# Altium integrated library Linear Technology PMIC-Switching Reg LTC1174-LTC3901.IntLib: 2647 symbols (part 94 of 310)
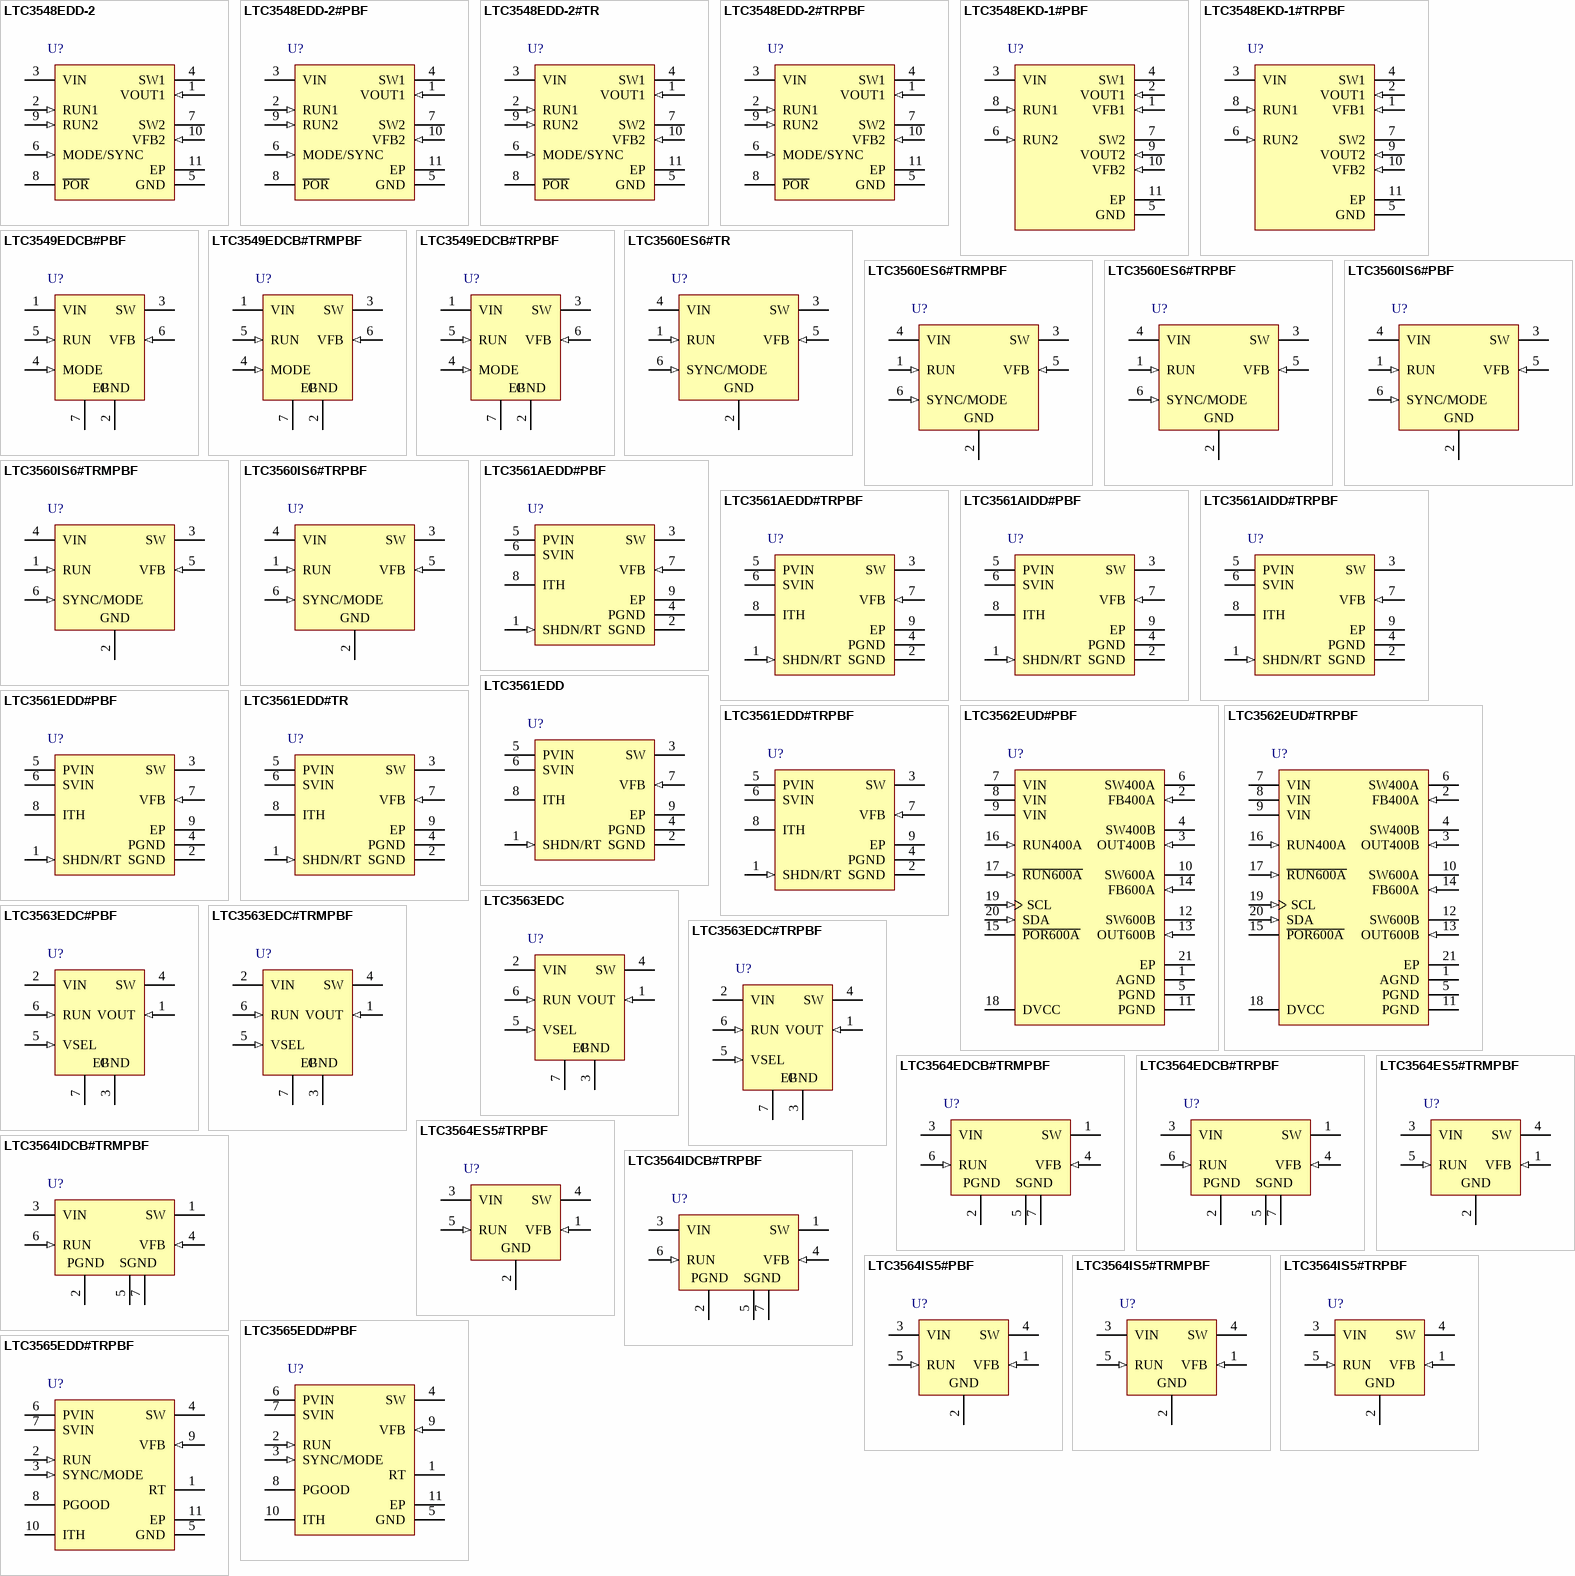
[diagram p268: symbols LTC3548EDD-2 to LTC3565EDD#TRPBF]

## LTC3560IS6#TRPBF
designator U?
2.25 MHz, 800 mA Synchronous Step-Down Regulator, 6-pin SOT23 (S6-6), -40 to 125 degC, Pb-Free, Tape and Reel; Manufacturer: Linear Technology; PartNumber: LTC3560IS6#TRPBF; Number of Outputs: 1; PackageReference: S6-6; PackageDescription: 6-Pin Plastic TSOT-23, Body 2.9 x 1.63 mm, Pitch 0.95 mm; Supplier 1: Digi-Key; Supplier Part Number 1: LTC3560IS6#TRPBF-ND; RoHS: TRUE; Code_JEDEC: MO-193
footprint LT-S6-6-TSOT-23_N (SOT23, 6-Leads, Body 2.9x1.75mm, Pitch 0.95mm, IPC Medium Density)
footprint LT-S6-6-TSOT-23_L (SOT23, 6-Leads, Body 2.9x1.75mm, Pitch 0.95mm, IPC High Density)
footprint LT-S6-6-TSOT-23_M (SOT23, 6-Leads, Body 2.9x1.75mm, Pitch 0.95mm, IPC Low Density)
pins: 1 RUN (in) "Run Control Input. Forcing this pin above 1.5V enables the part. Forcing this pin below 0.3V shuts down the device. In shutdown, all functions are disabled drawing <1uA supply current. Do not leave RUN floating.", 2 GND (power) "Ground Pin.", 3 SW (power) "Switch Node Connection to Inductor. This pin connects to the drains of the internal main and synchronous power MOSFET switches.", 4 VIN (power) "Main Supply Pin. Must be closely decoupled to GND, Pin 2, with a 10uF or greater ceramic capacitor.", 5 VFB (in) "Feedback Pin. Receives the feedback voltage from an external resistive divider across the output.", 6 SYNC/MODE (in) "External Clock Synchronization and Mode Select Input. To synchronize with an external clock, apply a clock with a frequency between 1MHz and 3MHz. To select pulse-skipping mode, tie to VIN. Grounding this pin selects Burst (See Datasheet)"

## LTC3561AEDD#PBF
designator U?
1 A, 4 MHz, Synchronous Step-Down DC/DC Converter, 8-pin SON (DD-8), -40 to 125 degC, Pb-Free; Manufacturer: Linear Technology; PartNumber: LTC3561AEDD#PBF; Number of Outputs: 1; PackageReference: DD8; PackageDescription: 8-Pin Plastic DFN, Body 3 x 3 mm, Pitch 0.5 mm; Supplier 1: Digi-Key; Supplier Part Number 1: LTC3561AEDD#PBF-ND; RoHS: TRUE; Code_JEDEC: M0-229
footprint LT-DD8_V (SON, 8-Leads, Body 3x3mm, Pitch 0.5mm, Thermal Pad 2.38x1.65mm)
pins: 1 SHDN/RT (in) "Combination Shutdown and Timing Resistor Pin. The oscillator frequency is programmed by connecting a resistor from this pin to ground. Forcing this pin to SVIN causes the device to be shut down. In shutdown all functions are (See Datasheet)", 2 SGND (power) "The Signal Ground Pin. All small signal components and compensation components should be connected to this ground (see Board Layout Considerations).", 3 SW (power) "The Switch Node Connection to the Inductor. This pin swings from PVIN to PGND.", 4 PGND (power) "Main Power Ground Pin. Connect to the (-) terminal of COUT, and (-) terminal of CIN.", 5 PVIN (power) "Main Supply Pin. Must be closely decoupled to PGND.", 6 SVIN (power) "The Signal Power Pin. All active circuitry is powered from this pin. Must be closely decoupled to SGND. SVIN must be greater than or equal to PVIN.", 7 VFB (in) "Receives the feedback voltage from the external resistive divider across the output. Nominal voltage for this pin is 0.8V.", 8 ITH "Error Amplifier Compensation Point. The current comparator threshold increases with this control voltage. Nominal voltage range for this pin is 0V to 1.5V.", 9 EP (power) "Thermal Connection to PCB. This pin should be soldered to ground to achieve rated thermal performance."

## LTC3561AEDD#TRPBF
designator U?
1 A, 4 MHz, Synchronous Step-Down DC/DC Converter, 8-pin SON (DD-8), -40 to 125 degC, Pb-Free, Tape and Reel; Manufacturer: Linear Technology; PartNumber: LTC3561AEDD#TRPBF; Number of Outputs: 1; PackageReference: DD8; PackageDescription: 8-Pin Plastic DFN, Body 3 x 3 mm, Pitch 0.5 mm; Supplier 1: Digi-Key; Supplier Part Number 1: LTC3561AEDD#TRPBFTR-ND; RoHS: TRUE; Code_JEDEC: M0-229
footprint LT-DD8_V (SON, 8-Leads, Body 3x3mm, Pitch 0.5mm, Thermal Pad 2.38x1.65mm)
pins: 1 SHDN/RT (in) "Combination Shutdown and Timing Resistor Pin. The oscillator frequency is programmed by connecting a resistor from this pin to ground. Forcing this pin to SVIN causes the device to be shut down. In shutdown all functions are (See Datasheet)", 2 SGND (power) "The Signal Ground Pin. All small signal components and compensation components should be connected to this ground (see Board Layout Considerations).", 3 SW (power) "The Switch Node Connection to the Inductor. This pin swings from PVIN to PGND.", 4 PGND (power) "Main Power Ground Pin. Connect to the (-) terminal of COUT, and (-) terminal of CIN.", 5 PVIN (power) "Main Supply Pin. Must be closely decoupled to PGND.", 6 SVIN (power) "The Signal Power Pin. All active circuitry is powered from this pin. Must be closely decoupled to SGND. SVIN must be greater than or equal to PVIN.", 7 VFB (in) "Receives the feedback voltage from the external resistive divider across the output. Nominal voltage for this pin is 0.8V.", 8 ITH "Error Amplifier Compensation Point. The current comparator threshold increases with this control voltage. Nominal voltage range for this pin is 0V to 1.5V.", 9 EP (power) "Thermal Connection to PCB. This pin should be soldered to ground to achieve rated thermal performance."